# EAGLE library part 218-10 (library switch-dil)
DIP SWITCH
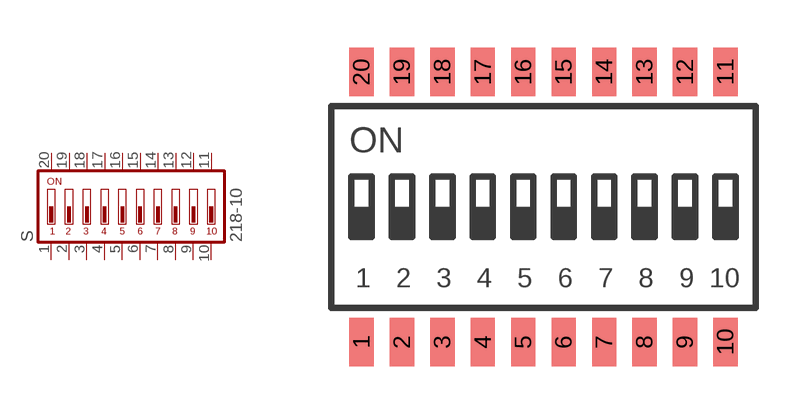
[diagram p68: symbol with the pads of 218-10; footprint 218-10]

Designator prefix S

## 218-10  [218-10]
1  1  pas
2  2  pas
3  3  pas
4  4  pas
5  5  pas
6  6  pas
7  7  pas
8  8  pas
9  9  pas
10  10  pas
11  11  pas
12  12  pas
13  13  pas
14  14  pas
15  15  pas
16  16  pas
17  17  pas
18  18  pas
19  19  pas
20  20  pas

## Footprint 218-10 (pad centres in mm)
CTS SERIES 218LP - Gull Wing Terminal
smd 0.762 x 1.524: 1 -5.715,-4.245; 2 -4.445,-4.245; 3 -3.175,-4.245; 4 -1.905,-4.245; 5 -0.635,-4.245; 6 0.635,-4.245; 7 1.905,-4.245; 8 3.175,-4.245; 9 4.445,-4.245; 10 5.715,-4.245; 11 5.715,4.245; 12 4.445,4.245; 13 3.175,4.245; 14 1.905,4.245; 15 0.635,4.245; 16 -0.635,4.245; 17 -1.905,4.245; 18 -3.175,4.245; 19 -4.445,4.245; 20 -5.715,4.245